# Altium footprint library Capacitors THD.PcbLib: 270 footprints (part 17 of 17)
Each footprint in its own frame and in the unit in brackets; x right, y up, seen from the top. Pads: shape width x height; smd on the part's side, far side on the other; paste and mask are expansions set on the pad; w line width, h text height; cw(c..) or ccw(c..) is an arc to the next point about the centre after c.
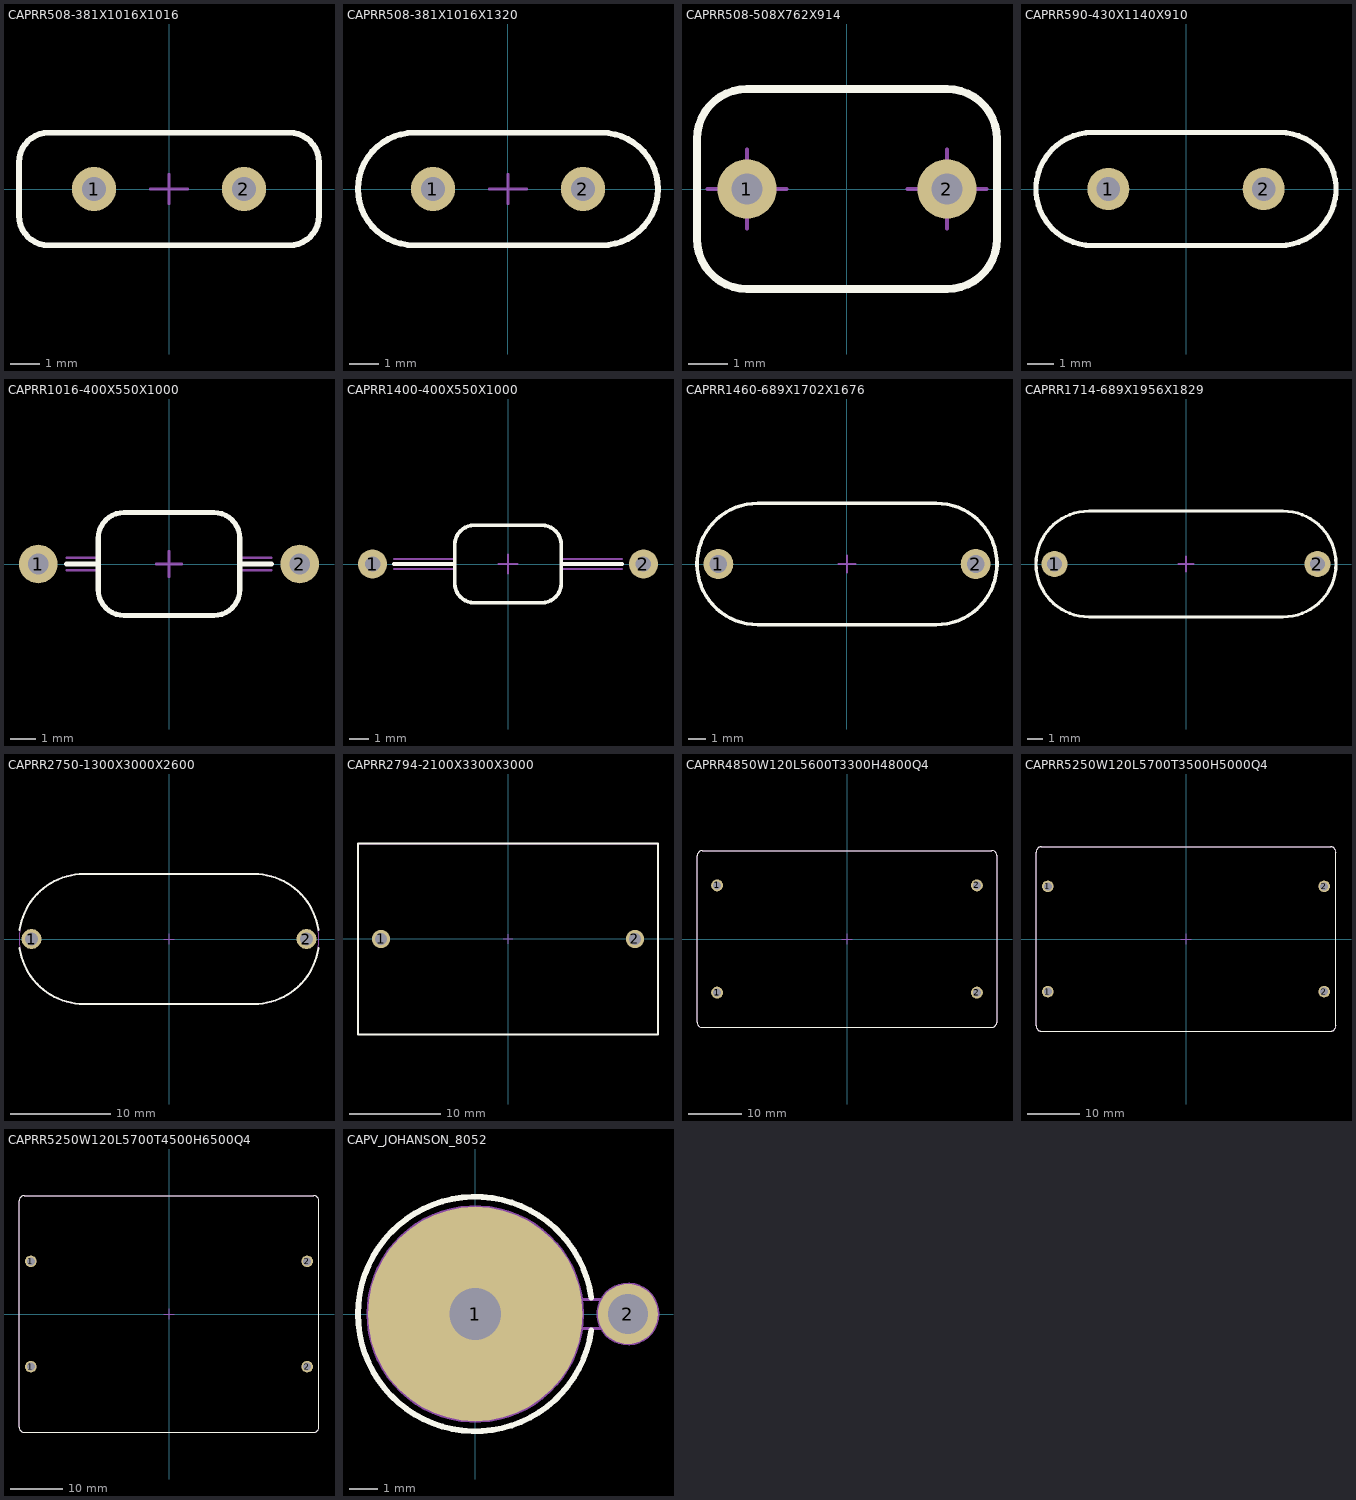
[diagram p16: the footprints below, top view; thin cyan lines are the x and y axes]

## CAPRR508-381X1016X1016 [mm] "Capacitor Radial Rounded, Pin spacing 5.08mm - Body With 3.81mm X Body Length 10.16mm X Body Height 10.16mm"
height 10.16
pads (2):
  round 1.5 hole 0.8: 1(-2.54,0) 2(2.54,0)
Top Overlay:
  lines w0.2: -5.08,-0.905 ccw(c-4.08,-0.905) -4.08,-1.905 4.08,-1.905 ccw(c4.08,-0.905) 5.08,-0.905 5.08,0.905 ccw(c4.08,0.905) 4.08,1.905 -4.08,1.905 ccw(c-4.08,0.905) -5.08,0.905 -5.08,-0.905
Mechanical 8:
  lines w0.1: -3.04,0 -2.54,0 ; -2.54,-0.5 -2.54,0 ; -2.54,0.5 -2.54,0 ; -2.04,0 -2.54,0 ; -0.5,0 0,0 ; 0,-0.5 0,0 ; 0,0.5 0,0 ; 0.5,0 0,0 ; 2.04,0 2.54,0 ; 2.54,-0.5 2.54,0 ; 2.54,0.5 2.54,0 ; 3.04,0 2.54,0 ; -3.175,0 -1.905,0 -3.175,0 ; -0.635,0 0.635,0 -0.635,0 ; 1.905,0 3.175,0 1.905,0
Mechanical 14:
  lines w0.1: -5.08,-0.905 ccw(c-4.08,-0.905) -4.08,-1.905 4.08,-1.905 ccw(c4.08,-0.905) 5.08,-0.905 5.08,0.905 ccw(c4.08,0.905) 4.08,1.905 -4.08,1.905 ccw(c-4.08,0.905) -5.08,0.905 -5.08,-0.905
3D body "CAPRR508-381X1016X1016.stp": height 10.3, standoff -3.6, extent -5.08,-1.905 5.08,1.905

## CAPRR508-381X1016X1320 [mm] "Capacitor Radial Rounded, Pin spacing 5.08mm - Body With 3.81mm X Body Length 10.16mm X Body Height 13.2mm"
height 13.2
pads (2):
  round 1.5 hole 0.8: 1(-2.54,0) 2(2.54,0)
Top Overlay:
  lines w0.2: -5.08,0 ccw(c-3.175,0) -3.175,-1.905 3.175,-1.905 ccw(c3.175,0) 5.08,0 ccw(c3.175,0) 3.175,1.905 -3.175,1.905 ccw(c-3.175,0) -5.08,0
Mechanical 8:
  lines w0.1: -3.04,0 -2.54,0 ; -2.54,-0.5 -2.54,0 ; -2.54,0.5 -2.54,0 ; -2.04,0 -2.54,0 ; -0.5,0 0,0 ; 0,-0.5 0,0 ; 0,0.5 0,0 ; 0.5,0 0,0 ; 2.04,0 2.54,0 ; 2.54,-0.5 2.54,0 ; 2.54,0.5 2.54,0 ; 3.04,0 2.54,0 ; -3.175,0 -1.905,0 -3.175,0 ; -0.635,0 0.635,0 -0.635,0 ; 1.905,0 3.175,0 1.905,0
Mechanical 14:
  lines w0.1: -5.08,0 ccw(c-3.175,0) -3.175,-1.905 3.175,-1.905 ccw(c3.175,0) 5.08,0 ccw(c3.175,0) 3.175,1.905 -3.175,1.905 ccw(c-3.175,0) -5.08,0
3D body "CAPRR508-381X1016X1320.stp": height 15.7, standoff -3.6, extent -5.082,-1.907 5.082,1.905

## CAPRR508-508X762X914 [mm] "Capacitor Radial Rounded, Pin spacing 5.08mm - Body With 5.08mm X Body Length 7.62mm X Body Height 9.14mm"
height 9.14
pads (2):
  round 1.5 hole 0.8: 1(-2.54,0) 2(2.54,0)
Top Overlay:
  lines w0.2: -3.81,-1.27 ccw(c-2.54,-1.27) -2.54,-2.54 2.54,-2.54 ccw(c2.54,-1.27) 3.81,-1.27 3.81,1.27 ccw(c2.54,1.27) 2.54,2.54 -2.54,2.54 ccw(c-2.54,1.27) -3.81,1.27 -3.81,-1.27
Mechanical 8:
  lines w0.1: -3.54,0 -2.54,0 ; -2.54,-1 -2.54,0 ; -2.54,1 -2.54,0 ; -1.54,0 -2.54,0 ; 1.54,0 2.54,0 ; 2.54,-1 2.54,0 ; 2.54,1 2.54,0 ; 3.54,0 2.54,0
Mechanical 14:
  lines w0.1: -3.81,-1.27 ccw(c-2.54,-1.27) -2.54,-2.54 2.54,-2.54 ccw(c2.54,-1.27) 3.81,-1.27 3.81,1.27 ccw(c2.54,1.27) 2.54,2.54 -2.54,2.54 ccw(c-2.54,1.27) -3.81,1.27 -3.81,-1.27
3D body "CAPRR508-508X762X914.stp": height 9.14, standoff -3.4, extent -3.81,-2.54 3.81,2.54

## CAPRR590-430X1140X910 [mm] "Capacitor Radial Rounded, Pin spacing 5.9mm - Body With 4.3mm X Body Length 11.4mm X Body Height 9.1mm"
height 9.1
pads (2):
  round 1.6 hole 0.9: 1(-2.95,0) 2(2.95,0)
Top Overlay:
  lines w0.2: -3.55,-2.15 cw(c-3.55,0) -3.55,2.15 3.55,2.15 cw(c3.55,0) 3.55,-2.15 -3.55,-2.15
Mechanical 14:
  lines w0.1: -3.55,-2.15 cw(c-3.55,0) -3.55,2.15 3.55,2.15 cw(c3.55,0) 3.55,-2.15 -3.55,-2.15
3D body "CAPRR590-430X1140X910.stp": height 10.95, standoff -4, extent -5.7,-2.15 5.7,2.15

## CAPRR1016-400X550X1000 [mm] "Capacitor Radial Rounded, Pin spacing 10.160mm - Body With 4.00mm X Body Length 5.50mm X Body Height 10mm"
height 10
pads (2):
  round 1.5 hole 0.8: 1(-5.08,0) 2(5.08,0)
Top Overlay:
  lines w0.2: -3.98,0 -2.75,0 ; 2.75,0 3.98,0 ; -2.75,-1 ccw(c-1.75,-1) -1.75,-2 1.75,-2 ccw(c1.75,-1) 2.75,-1 2.75,1 ccw(c1.75,1) 1.75,2 -1.75,2 ccw(c-1.75,1) -2.75,1 -2.75,-1
Mechanical 8:
  lines w0.1: -5.58,0 -5.08,0 ; -5.08,-0.5 -5.08,0 ; -5.08,0.5 -5.08,0 ; -4.58,0 -5.08,0 ; -0.5,0 0,0 ; 0,-0.5 0,0 ; 0,0.5 0,0 ; 0.5,0 0,0 ; 4.58,0 5.08,0 ; 5.08,-0.5 5.08,0 ; 5.08,0.5 5.08,0 ; 5.58,0 5.08,0
Mechanical 14:
  lines w0.1: -3.98,-0.25 -2.75,-0.25 ; -3.98,0.25 -2.75,0.25 ; 2.75,-0.25 3.98,-0.25 ; 2.75,0.25 3.98,0.25 ; -2.75,-1 ccw(c-1.75,-1) -1.75,-2 1.75,-2 ccw(c1.75,-1) 2.75,-1 2.75,1 ccw(c1.75,1) 1.75,2 -1.75,2 ccw(c-1.75,1) -2.75,1 -2.75,-1
3D body "CAPRR1016-400X550X1000.stp": height 10, standoff -3.6, extent -5.328,-2 5.328,2

## CAPRR1400-400X550X1000 [mm] "Capacitor Radial Rounded, Pin spacing 14mm - Body With 4.00mm X Body Length 5.50mm X Body Height 10mm"
height 10
pads (2):
  round 1.5 hole 0.8: 1(-7,0) 2(7,0)
Top Overlay:
  lines w0.2: -5.9,0 -2.75,0 ; 2.75,0 5.9,0 ; -2.75,-1 ccw(c-1.75,-1) -1.75,-2 1.75,-2 ccw(c1.75,-1) 2.75,-1 2.75,1 ccw(c1.75,1) 1.75,2 -1.75,2 ccw(c-1.75,1) -2.75,1 -2.75,-1
Mechanical 8:
  lines w0.1: -7.5,0 -7,0 ; -7,-0.5 -7,0 ; -7,0.5 -7,0 ; -6.5,0 -7,0 ; -0.5,0 0,0 ; 0,-0.5 0,0 ; 0,0.5 0,0 ; 0.5,0 0,0 ; 6.5,0 7,0 ; 7,-0.5 7,0 ; 7,0.5 7,0 ; 7.5,0 7,0
Mechanical 14:
  lines w0.1: -5.9,-0.25 -2.75,-0.25 ; -5.9,0.25 -2.75,0.25 ; 2.75,-0.25 5.9,-0.25 ; 2.75,0.25 5.9,0.25 ; -2.75,-1 ccw(c-1.75,-1) -1.75,-2 1.75,-2 ccw(c1.75,-1) 2.75,-1 2.75,1 ccw(c1.75,1) 1.75,2 -1.75,2 ccw(c-1.75,1) -2.75,1 -2.75,-1
3D body "CAPRR1400-400X550X1000.stp": height 10, standoff -3.6, extent -7.25,-2 7.25,2

## CAPRR1460-689X1702X1676 [mm] "Capacitor Radial Rounded, Pin spacing 16.6mm - Body Width 6.89mm X Body Length 17.02mm X Body Height 15.24mm"
height 16.76
pads (2):
  round 1.7 hole 1: 1(-7.3,0) 2(7.3,0)
Top Overlay:
  lines w0.2: -5.065,-3.445 cw(c-5.065,0) -5.065,3.445 5.065,3.445 cw(c5.065,0) 5.065,-3.445 -5.065,-3.445
Mechanical 8:
  lines w0.1: -7.8,0 -7.3,0 ; -7.3,-0.5 -7.3,0 ; -7.3,0.5 -7.3,0 ; -6.8,0 -7.3,0 ; -0.5,0 0,0 ; 0,-0.5 0,0 ; 0,0.5 0,0 ; 0.5,0 0,0 ; 6.8,0 7.3,0 ; 7.3,-0.5 7.3,0 ; 7.3,0.5 7.3,0 ; 7.8,0 7.3,0
Mechanical 14:
  lines w0.1: -5.065,-3.445 cw(c-5.065,0) -5.065,3.445 5.065,3.445 cw(c5.065,0) 5.065,-3.445 -5.065,-3.445
3D body "CAPRR1460-689X1702X1676.stp": height 16.76, standoff -3.6, extent -8.51,-3.445 8.51,3.445

## CAPRR1714-689X1956X1829 [mm] "Capacitor Radial Rounded, Pin spacing 17.14mm - Body Width 6.89mm X Body Length 19.56mm X Body Height 18.29mm"
height 18.29
pads (2):
  round 1.7 hole 1: 1(-8.57,0) 2(8.57,0)
Top Overlay:
  lines w0.2: -9.78,0 cw(c-6.335,0) -6.335,3.445 6.335,3.445 cw(c6.335,0) 9.78,0 cw(c6.335,0) 6.335,-3.445 -6.335,-3.445 cw(c-6.335,0) -9.78,0
Mechanical 8:
  lines w0.1: -9.07,0 -8.57,0 ; -8.57,-0.5 -8.57,0 ; -8.57,0.5 -8.57,0 ; -8.07,0 -8.57,0 ; -0.5,0 0,0 ; 0,-0.5 0,0 ; 0,0.5 0,0 ; 0.5,0 0,0 ; 8.07,0 8.57,0 ; 8.57,-0.5 8.57,0 ; 8.57,0.5 8.57,0 ; 9.07,0 8.57,0
Mechanical 14:
  lines w0.1: -9.78,0 cw(c-6.335,0) -6.335,3.445 6.335,3.445 cw(c6.335,0) 9.78,0 cw(c6.335,0) 6.335,-3.445 -6.335,-3.445 cw(c-6.335,0) -9.78,0
3D body "CAPRR1714-689X1956X1829.stp": height 18.29, standoff -3.6, extent -9.805,-3.445 9.805,3.445

## CAPRR2750-1300X3000X2600 [mm] "Capacitor Radial Rounded, Pin spacing 27.5mm - Body Width 13mm X Body Length 30mm X Body Height 26mm"
height 26
pads (2):
  round 2 hole 1.3: 1(-13.75,0) 2(13.75,0)
Top Overlay:
  lines w0.2: -14.935,-0.92 ccw(c-8.5,0) -8.5,-6.5 8.5,-6.5 ccw(c8.5,0) 14.935,-0.92 ; -14.935,0.92 cw(c-8.5,0) -8.5,6.5 8.5,6.5 cw(c8.5,0) 14.935,0.92
Mechanical 8:
  lines w0.1: -14.25,0 -13.75,0 ; -13.75,-0.5 -13.75,0 ; -13.75,0.5 -13.75,0 ; -13.25,0 -13.75,0 ; -0.5,0 0,0 ; 0,-0.5 0,0 ; 0,0.5 0,0 ; 0.5,0 0,0 ; 13.25,0 13.75,0 ; 13.75,-0.5 13.75,0 ; 13.75,0.5 13.75,0 ; 14.25,0 13.75,0
Mechanical 14:
  lines w0.1: -15,0 cw(c-8.5,0) -8.5,6.5 8.5,6.5 cw(c8.5,0) 15,0 cw(c8.5,0) 8.5,-6.5 -8.5,-6.5 cw(c-8.5,0) -15,0
3D body "CAPRR2750-1300X3000X2600.stp": height 26, standoff -3.5, extent -15,-6.5 15,6.5

## CAPRR2794-2100X3300X3000 [mm] "Capacitor Radial Rectangular, Pin spacing 27.94mm - Body With 20mm X Body Length 32mm X Body Height 29mm"
height 30
pads (2):
  round 2 hole 1.3: 1(-13.97,0) 2(13.97,0)
Top Overlay:
  lines w0.2: -16.5,-10.5 -16.5,10.5 16.5,10.5 16.5,-10.5 -16.5,-10.5
Mechanical 8:
  lines w0.1: -14.47,0 -13.97,0 ; -13.97,-0.5 -13.97,0 ; -13.97,0.5 -13.97,0 ; -13.47,0 -13.97,0 ; -0.5,0 0,0 ; 0,-0.5 0,0 ; 0,0.5 0,0 ; 0.5,0 0,0 ; 13.47,0 13.97,0 ; 13.97,-0.5 13.97,0 ; 13.97,0.5 13.97,0 ; 14.47,0 13.97,0
Mechanical 14:
  lines w0.1: -16.5,-10.5 -16.5,10.5 16.5,10.5 16.5,-10.5 -16.5,-10.5
3D body "CAPRR2794-2100X3300X3000.stp": height 30, standoff -3.69, extent -16.5,-10.5 16.5,10.5

## CAPRR4850W120L5600T3300H4800Q4 [mm] "Capacitor Non Polarized Radial Rectangular, 4 Pin, Lead spacing 48.5mm - Body Length 56mm X Body Thickness 33mm X Body Height 48mm"
height 48
pads (4):
  round 2.2 hole 1.5: 1(-24.25,-10) 1(-24.25,10) 2(24.25,-10) 2(24.25,10)
Top Overlay:
  lines w0.2: -28,-15.5 ccw(c-27,-15.5) -27,-16.5 27,-16.5 ccw(c27,-15.5) 28,-15.5 28,15.5 ccw(c27,15.5) 27,16.5 -27,16.5 ccw(c-27,15.5) -28,15.5 -28,-15.5
Mechanical 8:
  lines w0.1: -25.25,-10 -24.25,-10 ; -25.25,10 -24.25,10 ; -24.25,-11 -24.25,-10 ; -24.25,-9 -24.25,-10 ; -24.25,9 -24.25,10 ; -24.25,11 -24.25,10 ; -23.25,-10 -24.25,-10 ; -23.25,10 -24.25,10 ; -1,0 0,0 ; 0,-1 0,0 ; 0,1 0,0 ; 1,0 0,0 ; 23.25,-10 24.25,-10 ; 23.25,10 24.25,10 ; 24.25,-11 24.25,-10 ; 24.25,-9 24.25,-10 ; 24.25,9 24.25,10 ; 24.25,11 24.25,10 ; 25.25,-10 24.25,-10 ; 25.25,10 24.25,10
Mechanical 14:
  lines w0.1: -28,-15.5 ccw(c-27,-15.5) -27,-16.5 27,-16.5 ccw(c27,-15.5) 28,-15.5 28,15.5 ccw(c27,15.5) 27,16.5 -27,16.5 ccw(c-27,15.5) -28,15.5 -28,-15.5
3D body "CAPRR4850W120L5600T3300H4800Q4.stp": height 48, standoff -3.8, extent -28,-16.5 28,16.5

## CAPRR5250W120L5700T3500H5000Q4 [mm] "Capacitor Non Polarized Radial Rectangular, 4 Pin, Lead Spacing 52.5mm - Body Length 57mm X Body Thickness 35mm X Body Height 50mm"
height 50
pads (4):
  round 2.2 hole 1.5: 1(-26.25,-10) 1(-26.25,10) 2(26.25,-10) 2(26.25,10)
Top Overlay:
  lines w0.2: -28.5,-16.5 ccw(c-27.5,-16.5) -27.5,-17.5 27.5,-17.5 ccw(c27.5,-16.5) 28.5,-16.5 28.5,16.5 ccw(c27.5,16.5) 27.5,17.5 -27.5,17.5 ccw(c-27.5,16.5) -28.5,16.5 -28.5,-16.5
Mechanical 8:
  lines w0.05: -27.25,-10 -26.25,-10 ; -27.25,10 -26.25,10 ; -26.25,-11 -26.25,-10 ; -26.25,-9 -26.25,-10 ; -26.25,9 -26.25,10 ; -26.25,11 -26.25,10 ; -25.25,-10 -26.25,-10 ; -25.25,10 -26.25,10 ; -1,0 0,0 ; 0,-1 0,0 ; 0,1 0,0 ; 1,0 0,0 ; 25.25,-10 26.25,-10 ; 25.25,10 26.25,10 ; 26.25,-11 26.25,-10 ; 26.25,-9 26.25,-10 ; 26.25,9 26.25,10 ; 26.25,11 26.25,10 ; 27.25,-10 26.25,-10 ; 27.25,10 26.25,10
Mechanical 14:
  lines w0.1: -28.5,-16.5 ccw(c-27.5,-16.5) -27.5,-17.5 27.5,-17.5 ccw(c27.5,-16.5) 28.5,-16.5 28.5,16.5 ccw(c27.5,16.5) 27.5,17.5 -27.5,17.5 ccw(c-27.5,16.5) -28.5,16.5 -28.5,-16.5
3D body "CAPRR5250W120L5700T3500H5000Q4.stp": height 50, standoff -3.8, extent -28.5,-17.5 28.5,17.5

## CAPRR5250W120L5700T4500H6500Q4 [mm] "Capacitor Non Polarized Radial Rectangular, 4 Pin, Lead spacing 52.5mm - Body Length 57mm X Body Thickness 45mm X Body Height 65mm"
height 48
pads (4):
  round 2.2 hole 1.5: 1(-26.25,-10) 1(-26.25,10) 2(26.25,-10) 2(26.25,10)
Top Overlay:
  lines w0.2: -28.5,-21.5 ccw(c-27.5,-21.5) -27.5,-22.5 27.5,-22.5 ccw(c27.5,-21.5) 28.5,-21.5 28.5,21.5 ccw(c27.5,21.5) 27.5,22.5 -27.5,22.5 ccw(c-27.5,21.5) -28.5,21.5 -28.5,-21.5
Mechanical 8:
  lines w0.1: -27.25,-10 -26.25,-10 ; -27.25,10 -26.25,10 ; -26.25,-11 -26.25,-10 ; -26.25,-9 -26.25,-10 ; -26.25,9 -26.25,10 ; -26.25,11 -26.25,10 ; -25.25,-10 -26.25,-10 ; -25.25,10 -26.25,10 ; -1,0 0,0 ; 0,-1 0,0 ; 0,1 0,0 ; 1,0 0,0 ; 25.25,-10 26.25,-10 ; 25.25,10 26.25,10 ; 26.25,-11 26.25,-10 ; 26.25,-9 26.25,-10 ; 26.25,9 26.25,10 ; 26.25,11 26.25,10 ; 27.25,-10 26.25,-10 ; 27.25,10 26.25,10
Mechanical 14:
  lines w0.1: -28.5,-21.5 ccw(c-27.5,-21.5) -27.5,-22.5 27.5,-22.5 ccw(c27.5,-21.5) 28.5,-21.5 28.5,21.5 ccw(c27.5,21.5) 27.5,22.5 -27.5,22.5 ccw(c-27.5,21.5) -28.5,21.5 -28.5,-21.5
3D body "CAPRR5250W120L5700T4500H6500Q4.stp": height 65, standoff -3.8, extent -28.5,-22.5 28.5,22.5

## CAPV_JOHANSON_8052 [mm] "Air Trimmer Capacitor, Body D 7.49mm x H 11.68, 8052 Series"
height 11.68
pads (2):
  round 7.5 hole 1.8: 1(0,0)
  round 2.1 hole 1.4: 2(5.334,0)
Top Overlay:
  lines w0.2: 4.056,-0.572 cw(c0,0) 4.056,0.572
Mechanical 8:
  circle w0.1: c5.334,0 r0.7
  circle w0.1: c5.334,0 r1.05
  circle w0.1: c0,0 r3.75
  circle w0.1: c0,0 r0.9
  circle w0.1: c0,0 r1.25
  lines w0.1: -0.5,0 0,0 ; 0,-0.5 0,0 ; 0,0.5 0,0 ; 0.5,0 0,0 ; 4.834,0 5.334,0 ; 5.334,-0.5 5.334,0 ; 5.334,0.5 5.334,0 ; 5.834,0 5.334,0
Mechanical 14:
  circle w0.1: c0,0 r3.746
  circle w0.1: c0,0 r2.001
  circle w0.1: c0,0 r2.97
  lines w0.1: 3.712,-0.508 5.524,-0.508 5.524,0.508 3.712,0.508 ; -1.6,1.034 ccw(c0,0) 1.034,-1.6 -1.6,1.034 ; -1.034,1.6 cw(c0,0) 1.6,-1.034 -1.034,1.6
3D body "CAPV_JOHANSON_8052.stp": height 11.68, standoff -2.79, extent -3.746,-3.746 5.525,3.747